# Altium schematic symbol library Radar.SchLib: 6 symbols
Pins are listed as number, name and electrical type; pins without a type are passive.

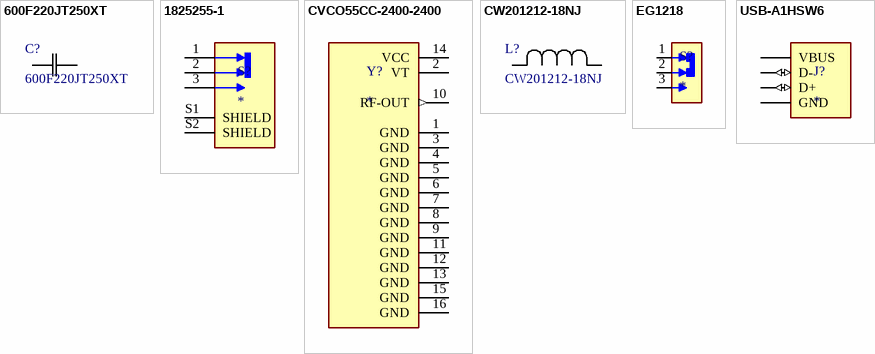
[diagram p0: symbols 600F220JT250XT to USB-A1HSW6]

## 600F220JT250XT
designator C?
Description; Manufacturer_Name: American Technical Ceramics; Copyright: Copyright (C) 2025 Ultra Librarian. All rights reserved.; Manufacturer_Part_Number: 600F220JT250XT
footprint CAP_600F0R1AT250T_ATC
pins: 1, 2

## 1825255-1
designator S?
Switch, Mhs12204=Spdt Sl Sw Vert Ag | TE Connectivity 1825255-1; SnapEDA_Link: https://www.snapeda.com/parts/1825255-1/TE+Connectivity+Alcoswitch+Switches/view-part/?ref=snap; Package: Custom Package TE Connectivity; Value: *; MF: TE Connectivity; MP: 1825255-1; Check_prices: https://www.snapeda.com/parts/1825255-1/TE+Connectivity+Alcoswitch+Switches/view-part/?ref=eda
footprint SW_1825255-1
pins: 1, 2, 3, S1 SHIELD, S2 SHIELD

## CVCO55CC-2400-2400
designator Y?
2400MHz Center Frequency 0.5 V ~ 4.5 V Voltage Controlled Oscillator 7 Â±2 dBm -25 2nd Harmonic Typ (dBc); MF: Crystek Corporation; MP: CVCO55CC-2400-2400; Check_prices: https://www.snapeda.com/parts/CVCO55CC-2400-2400/Crystek+Corporation/view-part/?ref=eda; SnapEDA_Link: https://www.snapeda.com/parts/CVCO55CC-2400-2400/Crystek+Corporation/view-part/?ref=snap; Value: *; Digi-Key_Part_Number: 744-1546-ND; Purchase-URL: https://pricing.snapeda.com/search/part/CVCO55CC-2400-2400/?ref=eda; Package: QFN-16 Crystek Corporation
footprint XTAL_CVCO55CC-2400-2400
pins: 1 GND (power), 2 VT (power), 3 GND (power), 4 GND (power), 5 GND (power), 6 GND (power), 7 GND (power), 8 GND (power), 9 GND (power), 10 RF-OUT (out), 11 GND (power), 12 GND (power), 13 GND (power), 14 VCC (power), 15 GND (power), 16 GND (power)

## CW201212-18NJ
designator L?
No Description Available; Manufacturer_Name: Bourns Electronics; Copyright: Copyright (C) 2026 Ultra Librarian. All rights reserved.; Manufacturer_Part_Number: CW201212-18NJ
footprint IND_BOURNS_CW201212
pins: 1, 2

## EG1218
designator S?
Slide Switch, EG Series, SPDT, Non-Shorting, ON-ON, 200mA DC, 30VDC, PC Pin | E-Switch EG1218; SnapEDA_Link: https://www.snapeda.com/parts/EG1218/E-Switch/view-part/?ref=snap; Package: None; Value: *; MF: E-Switch; MP: EG1218; Check_prices: https://www.snapeda.com/parts/EG1218/E-Switch/view-part/?ref=eda
footprint SW_EG1218
pins: 1 NC, 2 COM, 3 NO

## USB-A1HSW6
designator J?
MF: {'manufacturer': u'On Shore Technology Inc.'}; MP: USB-A1HSW6; Package: None; Price: None; Value: *; Availability: Unavailable
footprint OST_USB-A1HSW6
pins: 1 VBUS (power), 2 D- (io), 3 D+ (io), 4 GND (power)